# Altium schematic symbol library 2929SQ-331GEC.SchLib: 1 symbol
Pins are listed as number, name and electrical type; pins without a type are passive.

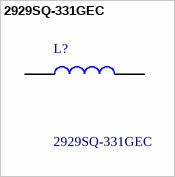
[diagram p0: symbol 2929SQ-331GEC]

## 2929SQ-331GEC
designator L?
COILCRAFT - 2929SQ-331GEC - Air Core Inductor, Square, 330 nH, 4.7 A, 2929SQ Series, +/- 5%, 10.29mm x 7.49mm x 7.24mm; Geometry.Height: 7.494mm; Mouser Part Number: 994-2929SQ-331GEC; Mouser Price/Stock: https://www.mouser.co.uk/ProductDetail/Coilcraft/2929SQ-331GEC?qs=zCSbvcPd3pbvtAoRmJf4qw%3D%3D; Manufacturer_Name: COILCRAFT; Manufacturer_Part_Number: 2929SQ-331GEC; Datasheet Link: https://www.coilcraft.com/getmedia/a4eed406-a97e-4630-9d8e-771bb470867f/1515sq.pdf
footprint 2929SQ331GEC
pins: 1, 2